# Altium integrated library TI Amplifiers and Linear PGA-VGA.IntLib: 149 symbols (part 7 of 8)
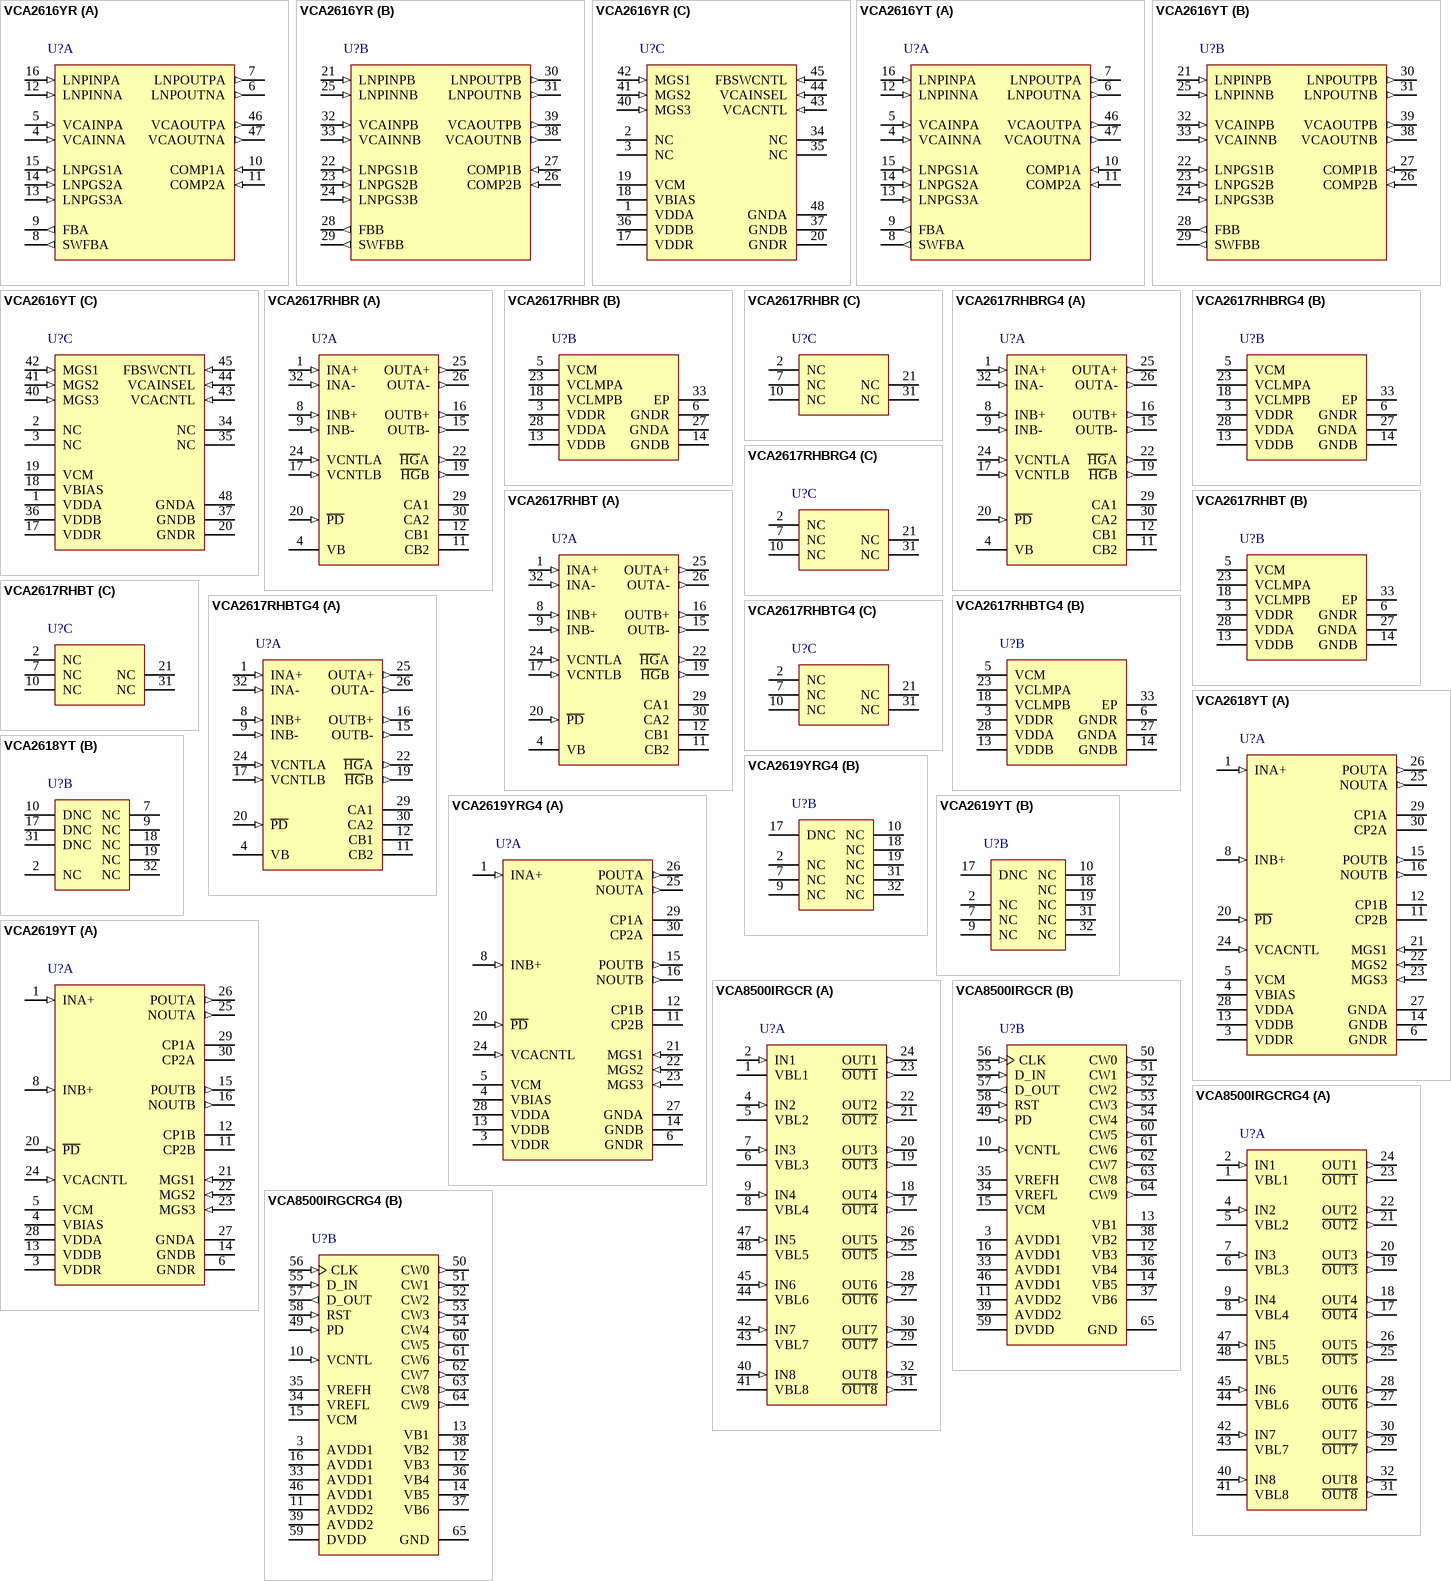
[diagram p13: symbols VCA2616YR to VCA8500IRGCRG4]

## VCA2617RHBT
designator U?
2-Channel Variable Gain Amplifier, -40 to 85 degC, 32-pin QFN (RHB32), Green (RoHS & no Sb/Br); Manufacturer: Texas Instruments; PartNumber: VCA2617RHBT; BW @ Acl(MHz): 50; Number of Channels: 2; Slew Rate(Typ)(V/us): 100; Vn at Flatband(Typ)(nV/rtHz): 4.1; Vs(Max)(V): 5.25; Vs(Min)(V): 4.75; DatasheetVersion: SBOS326; PackageVersion: 4204326/D, 06/2011; PackageReference: RHB32-3150X3150TP; PackageDescription: 32-Pin Plastic Flat Pack, Body 5 x 5 mm, Pitch 0.5 mm; Supplier 1: Digi-Key; Supplier Part Number 1: 296-18347-2-ND; Supplier 2: Digi-Key; Supplier Part Number 2: 296-18347-1-ND; Supplier 3: Digi-Key; Supplier Part Number 3: 296-18347-6-ND; Supplier 4: Newark; Supplier Part Number 4: 54K2380; Supplier 5: Mouser; Supplier Part Number 5: 595-VCA2617RHBT; Eco-Plan: Green (RoHS & no Sb/Br); SubFamily: Variable Gain Amplifier; Mounting Technology: Surface Mount; Code_JEDEC: MO-220; ComponentLink1Description: Manufacturer URL; ComponentLink1URL: http://www.ti.com/; ComponentLink2Description: Datasheet; ComponentLink2URL: http://www.ti.com/general/docs/lit/getliterature.tsp?genericPartNumber=VCA2617&fileType=pdf; ComponentLink3Description: Package Specification; ComponentLink3URL: http://www.ti.com/lit/ml/mpqf130c/mpqf130c.pdf
footprint TI-RHB32-3150X3150TP_V (QFN, 32-Leads, Body 5x5mm, Pitch 0.5mm, Thermal Pad 3.15x3.15mm)
part A pins: 1 INA+ (in) "Channel A +Input", 4 VB "Bias Voltage, 0.1uF Bypass Capacitor", 8 INB+ (in) "Channel B+ Input", 9 INB- (in) "Channel B- Input", 11 CB2 "Channel B, External Coupling Capacitor", 12 CB1 "Channel B, External Coupling Capacitor", 15 OUTB- (out) "Channel B- Output", 16 OUTB+ (out) "Channel B+ Output", 17 VCNTLB (in) "Channel B Gain Control Voltage Input", 19 ~{HG}B (out) "Channel B High/Low Output Gain (High = Low Gain)", 20 ~{PD} (in) "Power Down (Active High)", 22 ~{HG}A (out) "Channel A High/Low Output Gain (High = Low Gain)", 24 VCNTLA (in) "Channel A Gain Control Voltage Input", 25 OUTA+ (out) "Channel A+ Output", 26 OUTA- (out) "Channel A- Output", 29 CA1 "Channel A; External Coupling Capacitor", 30 CA2 "Channel A; External Coupling Capacitor", 32 INA- (in) "Channel A- Input"
part B pins: 3 VDDR (power) "Reference Supply", 5 VCM (power) "Common-mode Voltage, 0.1uF Bypass Capacitor", 6 GNDR (power) "Internal Reference Ground", 13 VDDB (power) "Channel B Supply", 14 GNDB (power) "Channel B Ground", 18 VCLMPB (power) "Channel B Clamp Voltage", 23 VCLMPA (power) "Channel A Clamp Voltage", 27 GNDA (power) "Channel A Ground", 28 VDDA (power) "Channel A Supply", 33 EP (power) "Thermal Pad tied to Ground Potentia"
part C pins: 2 NC "No Internal Connection", 7 NC "No Internal Connection", 10 NC "No Internal Connection", 21 NC "No Internal Connection", 31 NC "No Internal Connection"

## VCA2617RHBTG4
designator U?
2-Channel Variable Gain Amplifier, -40 to 85 degC, 32-pin QFN (RHB32), Green (RoHS & no Sb/Br); Manufacturer: Texas Instruments; PartNumber: VCA2617RHBTG4; BW @ Acl(MHz): 50; Number of Channels: 2; Slew Rate(Typ)(V/us): 100; Vn at Flatband(Typ)(nV/rtHz): 4.1; Vs(Max)(V): 5.25; Vs(Min)(V): 4.75; DatasheetVersion: SBOS326; PackageVersion: 4204326/D, 06/2011; PackageReference: RHB32-3150X3150TP; PackageDescription: 32-Pin Plastic Flat Pack, Body 5 x 5 mm, Pitch 0.5 mm; Supplier 1: Digi-Key; Supplier Part Number 1: VCA2617RHBTG4-ND; Supplier 2: Mouser; Supplier Part Number 2: 595-VCA2617RHBTG4; Eco-Plan: Green (RoHS & no Sb/Br); SubFamily: Variable Gain Amplifier; Mounting Technology: Surface Mount; Code_JEDEC: MO-220; ComponentLink1Description: Manufacturer URL; ComponentLink1URL: http://www.ti.com/; ComponentLink2Description: Datasheet; ComponentLink2URL: http://www.ti.com/general/docs/lit/getliterature.tsp?genericPartNumber=VCA2617&fileType=pdf; ComponentLink3Description: Package Specification; ComponentLink3URL: http://www.ti.com/lit/ml/mpqf130c/mpqf130c.pdf
footprint TI-RHB32-3150X3150TP_V (QFN, 32-Leads, Body 5x5mm, Pitch 0.5mm, Thermal Pad 3.15x3.15mm)
part A pins: 1 INA+ (in) "Channel A +Input", 4 VB "Bias Voltage, 0.1uF Bypass Capacitor", 8 INB+ (in) "Channel B+ Input", 9 INB- (in) "Channel B- Input", 11 CB2 "Channel B, External Coupling Capacitor", 12 CB1 "Channel B, External Coupling Capacitor", 15 OUTB- (out) "Channel B- Output", 16 OUTB+ (out) "Channel B+ Output", 17 VCNTLB (in) "Channel B Gain Control Voltage Input", 19 ~{HG}B (out) "Channel B High/Low Output Gain (High = Low Gain)", 20 ~{PD} (in) "Power Down (Active High)", 22 ~{HG}A (out) "Channel A High/Low Output Gain (High = Low Gain)", 24 VCNTLA (in) "Channel A Gain Control Voltage Input", 25 OUTA+ (out) "Channel A+ Output", 26 OUTA- (out) "Channel A- Output", 29 CA1 "Channel A; External Coupling Capacitor", 30 CA2 "Channel A; External Coupling Capacitor", 32 INA- (in) "Channel A- Input"
part B pins: 3 VDDR (power) "Reference Supply", 5 VCM (power) "Common-mode Voltage, 0.1uF Bypass Capacitor", 6 GNDR (power) "Internal Reference Ground", 13 VDDB (power) "Channel B Supply", 14 GNDB (power) "Channel B Ground", 18 VCLMPB (power) "Channel B Clamp Voltage", 23 VCLMPA (power) "Channel A Clamp Voltage", 27 GNDA (power) "Channel A Ground", 28 VDDA (power) "Channel A Supply", 33 EP (power) "Thermal Pad tied to Ground Potentia"
part C pins: 2 NC "No Internal Connection", 7 NC "No Internal Connection", 10 NC "No Internal Connection", 21 NC "No Internal Connection", 31 NC "No Internal Connection"

## VCA2618YT
designator U?
Dual, Variable Gain Amplifier with Input Buffer, -40 to 85 degC, 32-pin QFP (PBS32), Green (RoHS & no Sb/Br); Manufacturer: Texas Instruments; PartNumber: VCA2618YT; Number of Channels: 2; Slew Rate(Typ)(V/us): 300; Vn at Flatband(Typ)(nV/rtHz): 5.4; Vs(Max)(V): 5.25; Vs(Min)(V): 4.75; DatasheetVersion: SBOS254B; PackageVersion: 4087735/B, 07/2005; PackageReference: PBS32; PackageDescription: 32-Pin Plastic Flat Pack, Body 5 X 5 mm, Pitch 0.5 mm; Supplier 1: Digi-Key; Supplier Part Number 1: 296-14062-2-ND; Supplier 2: Digi-Key; Supplier Part Number 2: 296-14062-1-ND; Supplier 3: Digi-Key; Supplier Part Number 3: 296-14062-6-ND; Supplier 4: Mouser; Supplier Part Number 4: 595-VCA2618YT; Eco-Plan: Green (RoHS & no Sb/Br); SubFamily: Variable Gain Amplifier; Mounting Technology: Surface Mount; Code_JEDEC: MS-026; ComponentLink1Description: Manufacturer URL; ComponentLink1URL: http://www.ti.com/; ComponentLink2Description: Datasheet; ComponentLink2URL: http://www.ti.com/general/docs/lit/getliterature.tsp?genericPartNumber=VCA2618&fileType=pdf; ComponentLink3Description: Package Specification; ComponentLink3URL: http://www.ti.com/lit/ml/mpqf027a/mpqf027a.pdf
footprint TI-PBS32_N (QFP, 32-Leads, Body 5x5mm, Pitch 0.5mm, IPC Medium Density)
footprint TI-PBS32_L (QFP, 32-Leads, Body 5x5mm, Pitch 0.5mm, IPC High Density)
footprint TI-PBS32_M (QFP, 32-Leads, Body 5x5mm, Pitch 0.5mm, IPC Low Density)
part A pins: 1 INA+ (in) "Noninverting Input Channel A", 3 VDDR (power) "Internal Reference Supply", 4 VBIAS (power) "Bias Voltage", 5 VCM (power) "Common-Mode Voltage", 6 GNDR (power) "Internal Reference Ground", 8 INB+ (in) "Noninverting Input Channel B", 11 CP2B "Coupling Capacitor Channel B", 12 CP1B "Coupling Capacitor Channel B", 13 VDDB (power) "+5V Supply Channel B", 14 GNDB (power) "Ground Channel B", 15 POUTB (out) "Positive Output Channel B", 16 NOUTB (out) "Negative Output Channel B", 20 ~{PD} (in) "Power-Down (Active LOW)", 21 MGS1 (in) "Maximum Gain Select 1 (MSB)", 22 MGS2 (in) "Maximum Gain Select 2", 23 MGS3 (in) "Maximum Gain Select 3 (LSB)", 24 VCACNTL (in) "VCA Analog Control", 25 NOUTA (out) "Negative VCA Output Channel A", 26 POUTA (out) "Positive VCA Output Channel A", 27 GNDA (power) "Ground Channel A", 28 VDDA (power) "+5V Supply Channel A", 29 CP1A "Coupling Capacitor Channel A", 30 CP2A "Coupling Capacitor Channel A"
part B pins: 2 NC "No Internal Connection", 7 NC "Not Connected", 9 NC "No Internal Connection", 10 DNC "Do Not Connect", 17 DNC "Do Not Connect", 18 NC "No Internal Connection", 19 NC "No Internal Connection", 31 DNC "Do Not Connect", 32 NC "No Internal Connection"

## VCA2619YRG4
designator U?
Dual, Variable Gain Amplifier with Input Buffer, -40 to 85 degC, 32-pin QFP (PBS32); Manufacturer: Texas Instruments; PartNumber: VCA2619YRG4; BW @ Acl(MHz): 20; Iib(Max)(nA): 1; Number of Channels: 2; Slew Rate(Typ)(V/us): 300; Vn at Flatband(Typ)(nV/rtHz): 5.9; Vs(Max)(V): 5.25; Vs(Min)(V): 4.75; DatasheetVersion: SBOS276A; PackageVersion: 4087735/B, 07/2005; PackageReference: PBS32; PackageDescription: 32-Pin Plastic Flat Pack, Body 5 X 5 mm, Pitch 0.5 mm; Supplier 1: Mouser; Supplier Part Number 1: N/A; SubFamily: Variable Gain Amplifier; Mounting Technology: Surface Mount; Code_JEDEC: MS-026; ComponentLink1Description: Manufacturer URL; ComponentLink1URL: http://www.ti.com/; ComponentLink2Description: Datasheet; ComponentLink2URL: http://www.ti.com/general/docs/lit/getliterature.tsp?genericPartNumber=VCA2619&fileType=pdf; ComponentLink3Description: Package Specification; ComponentLink3URL: http://www.ti.com/lit/ml/mpqf027a/mpqf027a.pdf
footprint TI-PBS32_N (QFP, 32-Leads, Body 5x5mm, Pitch 0.5mm, IPC Medium Density)
footprint TI-PBS32_L (QFP, 32-Leads, Body 5x5mm, Pitch 0.5mm, IPC High Density)
footprint TI-PBS32_M (QFP, 32-Leads, Body 5x5mm, Pitch 0.5mm, IPC Low Density)
part A pins: 1 INA+ (in) "Noninverting Input Channel A", 3 VDDR (power) "Internal Reference Supply", 4 VBIAS (power) "Bias Voltage", 5 VCM (power) "Common?Mode Voltage", 6 GNDR (power) "Internal Reference Ground", 8 INB+ (in) "Noninverting Input Channel B", 11 CP2B "Coupling Capacitor Channel B", 12 CP1B "Coupling Capacitor Channel B", 13 VDDB (power) "+5V Supply Channel B", 14 GNDB (power) "Ground Channel B", 15 POUTB (out) "Positive Output Channel B", 16 NOUTB (out) "Negative Output Channel B", 20 ~{PD} (in) "Power-Down (Active LOW)", 21 MGS1 (in) "Maximum Gain Select 1 (MSB)", 22 MGS2 (in) "Maximum Gain Select 2", 23 MGS3 (in) "Maximum Gain Select 3 (LSB)", 24 VCACNTL (in) "VCA Analog Control", 25 NOUTA (out) "Negative VCA Output Channel A", 26 POUTA (out) "Positive VCA Output Channel A", 27 GNDA (power) "Ground Channel A", 28 VDDA (power) "+5V Supply Channel A", 29 CP1A "Coupling Capacitor Channel A", 30 CP2A "Coupling Capacitor Channel A"
part B pins: 2 NC "No Internal Connection", 7 NC "No Internal Connection", 9 NC "No Internal Connection", 10 NC "No Internal Connection", 17 DNC "Do Not Connect", 18 NC "No Internal Connection", 19 NC "No Internal Connection", 31 NC "No Internal Connection", 32 NC "No Internal Connection"

## VCA2619YT
designator U?
Dual, Variable Gain Amplifier with Input Buffer, -40 to 85 degC, 32-pin QFP (PBS32), Green (RoHS & no Sb/Br); Manufacturer: Texas Instruments; PartNumber: VCA2619YT; BW @ Acl(MHz): 20; Iib(Max)(nA): 1; Number of Channels: 2; Slew Rate(Typ)(V/us): 300; Vn at Flatband(Typ)(nV/rtHz): 5.9; Vs(Max)(V): 5.25; Vs(Min)(V): 4.75; DatasheetVersion: SBOS276A; PackageVersion: 4087735/B, 07/2005; PackageReference: PBS32; PackageDescription: 32-Pin Plastic Flat Pack, Body 5 X 5 mm, Pitch 0.5 mm; Supplier 1: Digi-Key; Supplier Part Number 1: 296-19047-2-ND; Supplier 2: Digi-Key; Supplier Part Number 2: 296-19047-1-ND; Supplier 3: Mouser; Supplier Part Number 3: 595-VCA2619YT; Eco-Plan: Green (RoHS & no Sb/Br); SubFamily: Variable Gain Amplifier; Mounting Technology: Surface Mount; Code_JEDEC: MS-026; ComponentLink1Description: Manufacturer URL; ComponentLink1URL: http://www.ti.com/; ComponentLink2Description: Datasheet; ComponentLink2URL: http://www.ti.com/general/docs/lit/getliterature.tsp?genericPartNumber=VCA2619&fileType=pdf; ComponentLink3Description: Package Specification; ComponentLink3URL: http://www.ti.com/lit/ml/mpqf027a/mpqf027a.pdf
footprint TI-PBS32_N (QFP, 32-Leads, Body 5x5mm, Pitch 0.5mm, IPC Medium Density)
footprint TI-PBS32_L (QFP, 32-Leads, Body 5x5mm, Pitch 0.5mm, IPC High Density)
footprint TI-PBS32_M (QFP, 32-Leads, Body 5x5mm, Pitch 0.5mm, IPC Low Density)
part A pins: 1 INA+ (in) "Noninverting Input Channel A", 3 VDDR (power) "Internal Reference Supply", 4 VBIAS (power) "Bias Voltage", 5 VCM (power) "Common?Mode Voltage", 6 GNDR (power) "Internal Reference Ground", 8 INB+ (in) "Noninverting Input Channel B", 11 CP2B "Coupling Capacitor Channel B", 12 CP1B "Coupling Capacitor Channel B", 13 VDDB (power) "+5V Supply Channel B", 14 GNDB (power) "Ground Channel B", 15 POUTB (out) "Positive Output Channel B", 16 NOUTB (out) "Negative Output Channel B", 20 ~{PD} (in) "Power-Down (Active LOW)", 21 MGS1 (in) "Maximum Gain Select 1 (MSB)", 22 MGS2 (in) "Maximum Gain Select 2", 23 MGS3 (in) "Maximum Gain Select 3 (LSB)", 24 VCACNTL (in) "VCA Analog Control", 25 NOUTA (out) "Negative VCA Output Channel A", 26 POUTA (out) "Positive VCA Output Channel A", 27 GNDA (power) "Ground Channel A", 28 VDDA (power) "+5V Supply Channel A", 29 CP1A "Coupling Capacitor Channel A", 30 CP2A "Coupling Capacitor Channel A"
part B pins: 2 NC "No Internal Connection", 7 NC "No Internal Connection", 9 NC "No Internal Connection", 10 NC "No Internal Connection", 17 DNC "Do Not Connect", 18 NC "No Internal Connection", 19 NC "No Internal Connection", 31 NC "No Internal Connection", 32 NC "No Internal Connection"

## VCA8500IRGCR
designator U?
8-Channel, Ultra-Low Power Variable Gain Amplifier with Low-Noise Pre-Amplifier, -40 to 85 degC, 64-pin QFN (RGC64), Green (RoHS & no Sb/Br); Manufacturer: Texas Instruments; PartNumber: VCA8500IRGCR; BW @ Acl(MHz): 55; Number of Channels: 8; Vs(Max)(V): 3.6; Vs(Min)(V): 3.15; DatasheetVersion: SBOS390A; PackageVersion: 4204106/F, 11/2011; PackageReference: RGC64-7400X7400TP; PackageDescription: 64-Pin Plastic Quad Flatpack No-Lead, Body 9 x 9 mm, Pitch 0.5 mm; Supplier 1: Digi-Key; Supplier Part Number 1: VCA8500IRGCR-ND; Supplier 2: Mouser; Supplier Part Number 2: 595-VCA8500IRGCR; Eco-Plan: Green (RoHS & no Sb/Br); SubFamily: Variable Gain Amplifier; Mounting Technology: Surface Mount; ComponentLink1Description: Manufacturer URL; ComponentLink1URL: http://www.ti.com/; ComponentLink2Description: Datasheet; ComponentLink2URL: http://www.ti.com/general/docs/lit/getliterature.tsp?genericPartNumber=VCA8500&fileType=pdf; ComponentLink3Description: Package Specification; ComponentLink3URL: http://www.ti.com/litv/pdf/mpqf125e
footprint TI-RGC64-7400X7400TP_V (QFN, 64-Leads, Body 9x9mm, Pitch 0.5mm, Thermal Pad 7.4x7.4mm, TI Recommended)
part A pins: 1 VBL1 "LNA bias voltage (+2.4V); bypass with 0.1uF capacitor (min)", 2 IN1 (in) "LNA input channel 1", 4 IN2 (in) "LNA input channel 2", 5 VBL2 "LNA bias voltage (+2.4V); bypass with 0.1uF capacitor (min)", 6 VBL3 "LNA bias voltage (+2.4V); bypass with 0.1uF capacitor (min)", 7 IN3 (in) "LNA input channel 3", 8 VBL4 "LNA bias voltage (+2.4V); bypass with 0.1uF capacitor (min)", 9 IN4 (in) "LNA input channel 4", 17 ~{OUT4} (out) "PGA output channel 4 (inverted)", 18 OUT4 (out) "PGA output channel 4", 19 ~{OUT3} (out) "PGA output channel 3 (inverted)", 20 OUT3 (out) "PGA output channel 3", 21 ~{OUT2} (out) "PGA output channel 2 (inverted)", 22 OUT2 (out) "PGA output channel 2", 23 ~{OUT1} (out) "PGA output channel 1 (inverted)", 24 OUT1 (out) "PGA output channel 1", 25 ~{OUT5} (out) "PGA output channel 5 (inverted)", 26 OUT5 (out) "PGA output channel 5", 27 ~{OUT6} (out) "PGA output channel 6 (inverted)", 28 OUT6 (out) "PGA output channel 6", 29 ~{OUT7} (out) "PGA output channel 7 (inverted)", 30 OUT7 (out) "PGA output channel 7", 31 ~{OUT8} (out) "PGA output channel 8 (inverted)", 32 OUT8 (out) "PGA output channel 8", 40 IN8 (in) "LNA input channel 8", 41 VBL8 "LNA bias voltage (+2.4V); bypass with 0.1uF capacitor (min)", 42 IN7 (in) "LNA input channel 7", 43 VBL7 "LNA bias voltage (+2.4V); bypass with 0.1uF capacitor (min)", 44 VBL6 "LNA bias voltage (+2.4V); bypass with 0.1uF capacitor (min)", 45 IN6 (in) "LNA input channel 6", 47 IN5 (in) "LNA input channel 5", 48 VBL5 "LNA bias voltage (+2.4V); bypass with 0.1uF capacitor (min)"
part B pins: 3 AVDD1 (power) "+3.3V analog supply", 10 VCNTL (in) "Attenuator control voltage input (all channels)", 11 AVDD2 (power) "+5V analog supply (VCA, CW)", 12 VB3 "Internal bias voltage (+4.2V); bypass with 0.1uF capacitor (min)", 13 VB1 "Internal bias voltage (+2.4V); bypass with 2.2uF capacitor (1.0uF min)", 14 VB5 "Internal bias voltage (+2.4V); bypass with 0.1uF capacitor (min)", 15 VCM (power) "Internal common-mode voltage (+1.65V); bypass with 0.1uF capacitor (min)", 16 AVDD1 (power) "+3.3V analog supply", 33 AVDD1 (power) "+3.3V analog supply", 34 VREFL "Clamp reference level low, 2.0V; bypass with 0.1uF capacitor (min)", 35 VREFH "Clamp reference level high, 2.7V; bypass with 0.1uF capacitor (min)", 36 VB4 "Internal bias voltage (+2.4V); bypass with 0.1uF capacitor (min)", 37 VB6 "Internal bias voltage (+2.9V); bypass with 0.1uF capacitor (min)", 38 VB2 "Internal bias voltage (+2.7V); bypass with 0.1uF capacitor (min)", 39 AVDD2 (power) "+5V analog supply (VCA, CW)", 46 AVDD1 (power) "+3.3V analog supply", 49 PD (in) "Power-down pin for standby mode; 0 = normal operation, 1 = power down", 50 CW0 (out) "CW channel 0 current output", 51 CW1 (out) "CW channel 1 current output", 52 CW2 (out) "CW channel 2 current output", 53 CW3 (out) "CW channel 3 current output", 54 CW4 (out) "CW channel 4 current output", 55 D_IN (in) "Serial data input", 56 CLK (in) "Clock input for serial interface", 57 D_OUT (out) "Serial data output", 58 RST (in) "Reset input; rising edge resets register to default values.", 59 DVDD (power) "+3.3V digital supply; connect to a low-noise analog supply plane (AVDD1)", 60 CW5 (out) "CW channel 5 current output", 61 CW6 (out) "CW channel 6 current output", 62 CW7 (out) "CW channel 7 current output", 63 CW8 (out) "CW channel 8 current output", 64 CW9 (out) "CW channel 9 current output", 65 GND (power) "PowerPAD must be connected to the analog ground of the printed circuit board; use this ground for bypass capacitor return ground."

## VCA8500IRGCRG4
designator U?
8-Channel, Ultra-Low Power Variable Gain Amplifier with Low-Noise Pre-Amplifier, -40 to 85 degC, 64-pin QFN (RGC64), Green (RoHS & no Sb/Br); Manufacturer: Texas Instruments; PartNumber: VCA8500IRGCRG4; BW @ Acl(MHz): 55; Number of Channels: 8; Vs(Max)(V): 3.6; Vs(Min)(V): 3.15; DatasheetVersion: SBOS390A; PackageVersion: 4204106/F, 11/2011; PackageReference: RGC64-7400X7400TP; PackageDescription: 64-Pin Plastic Quad Flatpack No-Lead, Body 9 x 9 mm, Pitch 0.5 mm; Supplier 1: Digi-Key; Supplier Part Number 1: VCA8500IRGCRG4-ND; Supplier 2: Mouser; Supplier Part Number 2: 595-VCA8500IRGCRG4; Eco-Plan: Green (RoHS & no Sb/Br); SubFamily: Variable Gain Amplifier; Mounting Technology: Surface Mount; ComponentLink1Description: Manufacturer URL; ComponentLink1URL: http://www.ti.com/; ComponentLink2Description: Datasheet; ComponentLink2URL: http://www.ti.com/general/docs/lit/getliterature.tsp?genericPartNumber=VCA8500&fileType=pdf; ComponentLink3Description: Package Specification; ComponentLink3URL: http://www.ti.com/litv/pdf/mpqf125e
footprint TI-RGC64-7400X7400TP_V (QFN, 64-Leads, Body 9x9mm, Pitch 0.5mm, Thermal Pad 7.4x7.4mm, TI Recommended)
part A pins: 1 VBL1 "LNA bias voltage (+2.4V); bypass with 0.1uF capacitor (min)", 2 IN1 (in) "LNA input channel 1", 4 IN2 (in) "LNA input channel 2", 5 VBL2 "LNA bias voltage (+2.4V); bypass with 0.1uF capacitor (min)", 6 VBL3 "LNA bias voltage (+2.4V); bypass with 0.1uF capacitor (min)", 7 IN3 (in) "LNA input channel 3", 8 VBL4 "LNA bias voltage (+2.4V); bypass with 0.1uF capacitor (min)", 9 IN4 (in) "LNA input channel 4", 17 ~{OUT4} (out) "PGA output channel 4 (inverted)", 18 OUT4 (out) "PGA output channel 4", 19 ~{OUT3} (out) "PGA output channel 3 (inverted)", 20 OUT3 (out) "PGA output channel 3", 21 ~{OUT2} (out) "PGA output channel 2 (inverted)", 22 OUT2 (out) "PGA output channel 2", 23 ~{OUT1} (out) "PGA output channel 1 (inverted)", 24 OUT1 (out) "PGA output channel 1", 25 ~{OUT5} (out) "PGA output channel 5 (inverted)", 26 OUT5 (out) "PGA output channel 5", 27 ~{OUT6} (out) "PGA output channel 6 (inverted)", 28 OUT6 (out) "PGA output channel 6", 29 ~{OUT7} (out) "PGA output channel 7 (inverted)", 30 OUT7 (out) "PGA output channel 7", 31 ~{OUT8} (out) "PGA output channel 8 (inverted)", 32 OUT8 (out) "PGA output channel 8", 40 IN8 (in) "LNA input channel 8", 41 VBL8 "LNA bias voltage (+2.4V); bypass with 0.1uF capacitor (min)", 42 IN7 (in) "LNA input channel 7", 43 VBL7 "LNA bias voltage (+2.4V); bypass with 0.1uF capacitor (min)", 44 VBL6 "LNA bias voltage (+2.4V); bypass with 0.1uF capacitor (min)", 45 IN6 (in) "LNA input channel 6", 47 IN5 (in) "LNA input channel 5", 48 VBL5 "LNA bias voltage (+2.4V); bypass with 0.1uF capacitor (min)"
part B pins: 3 AVDD1 (power) "+3.3V analog supply", 10 VCNTL (in) "Attenuator control voltage input (all channels)", 11 AVDD2 (power) "+5V analog supply (VCA, CW)", 12 VB3 "Internal bias voltage (+4.2V); bypass with 0.1uF capacitor (min)", 13 VB1 "Internal bias voltage (+2.4V); bypass with 2.2uF capacitor (1.0uF min)", 14 VB5 "Internal bias voltage (+2.4V); bypass with 0.1uF capacitor (min)", 15 VCM (power) "Internal common-mode voltage (+1.65V); bypass with 0.1uF capacitor (min)", 16 AVDD1 (power) "+3.3V analog supply", 33 AVDD1 (power) "+3.3V analog supply", 34 VREFL "Clamp reference level low, 2.0V; bypass with 0.1uF capacitor (min)", 35 VREFH "Clamp reference level high, 2.7V; bypass with 0.1uF capacitor (min)", 36 VB4 "Internal bias voltage (+2.4V); bypass with 0.1uF capacitor (min)", 37 VB6 "Internal bias voltage (+2.9V); bypass with 0.1uF capacitor (min)", 38 VB2 "Internal bias voltage (+2.7V); bypass with 0.1uF capacitor (min)", 39 AVDD2 (power) "+5V analog supply (VCA, CW)", 46 AVDD1 (power) "+3.3V analog supply", 49 PD (in) "Power-down pin for standby mode; 0 = normal operation, 1 = power down", 50 CW0 (out) "CW channel 0 current output", 51 CW1 (out) "CW channel 1 current output", 52 CW2 (out) "CW channel 2 current output", 53 CW3 (out) "CW channel 3 current output", 54 CW4 (out) "CW channel 4 current output", 55 D_IN (in) "Serial data input", 56 CLK (in) "Clock input for serial interface", 57 D_OUT (out) "Serial data output", 58 RST (in) "Reset input; rising edge resets register to default values.", 59 DVDD (power) "+3.3V digital supply; connect to a low-noise analog supply plane (AVDD1)", 60 CW5 (out) "CW channel 5 current output", 61 CW6 (out) "CW channel 6 current output", 62 CW7 (out) "CW channel 7 current output", 63 CW8 (out) "CW channel 8 current output", 64 CW9 (out) "CW channel 9 current output", 65 GND (power) "PowerPAD must be connected to the analog ground of the printed circuit board; use this ground for bypass capacitor return ground."

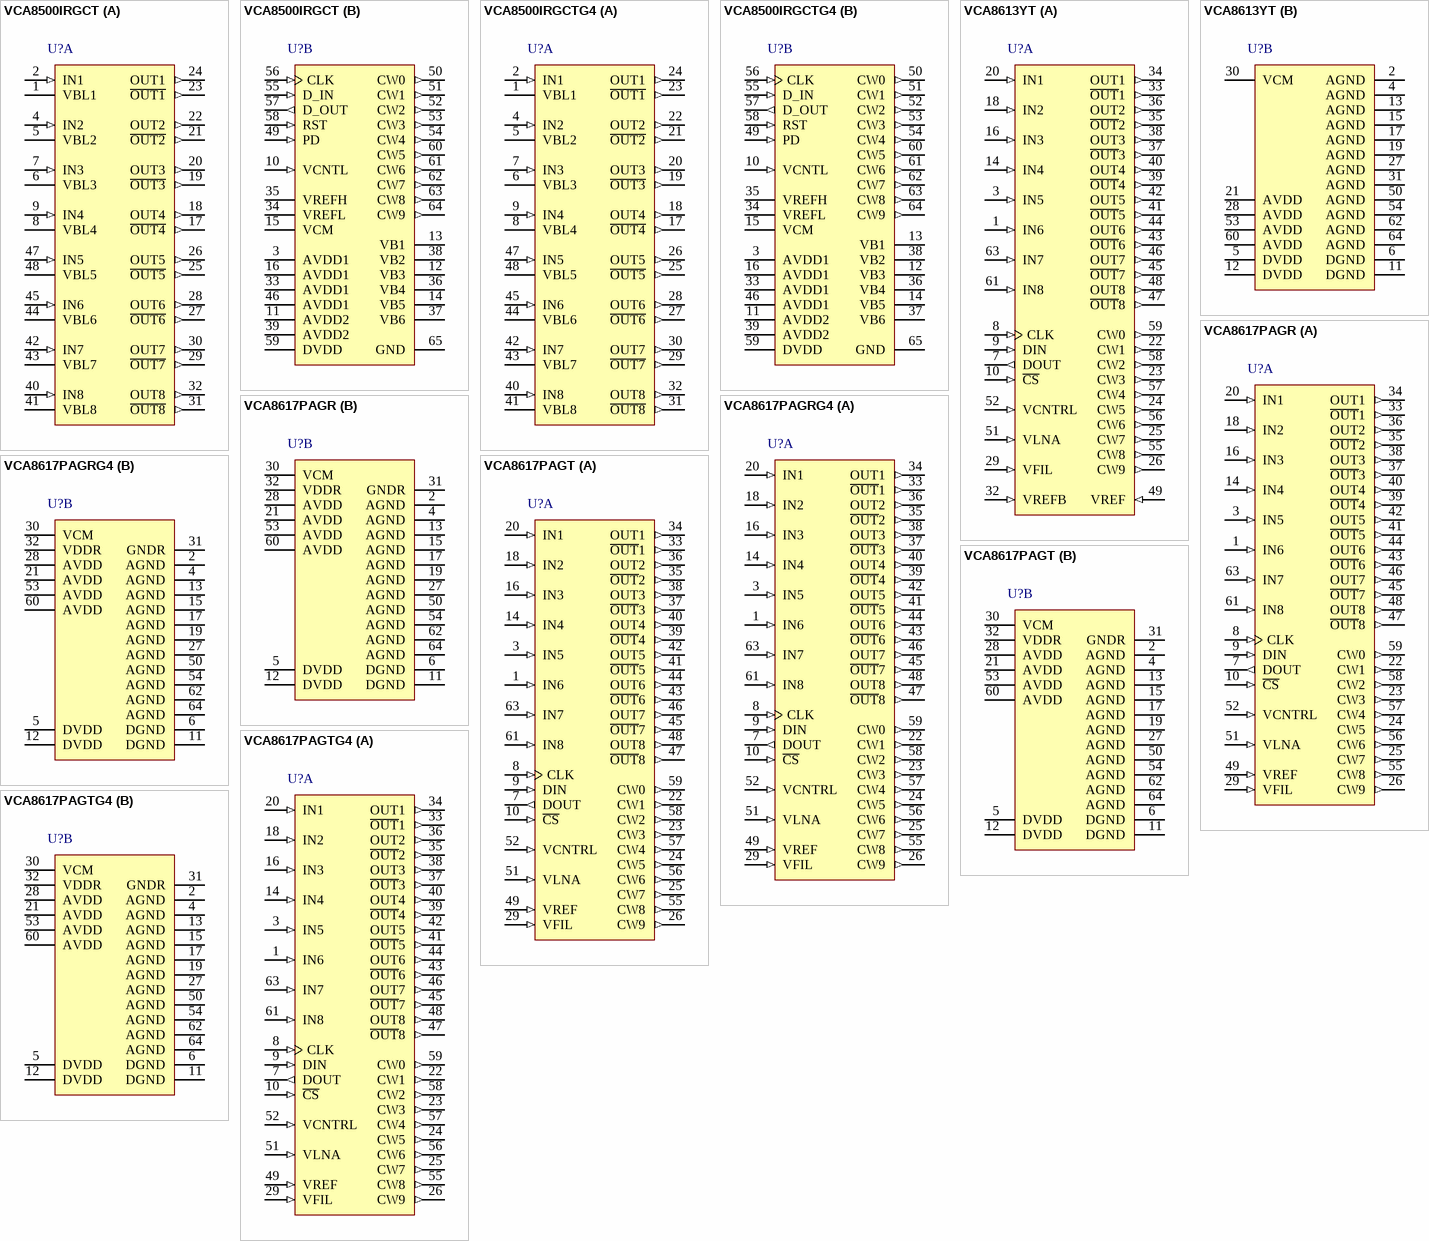
[diagram p7: symbols VCA8500IRGCT to VCA8617PAGTG4]

## VCA8500IRGCT
designator U?
8-Channel, Ultra-Low Power Variable Gain Amplifier with Low-Noise Pre-Amplifier, -40 to 85 degC, 64-pin QFN (RGC64), Green (RoHS & no Sb/Br); Manufacturer: Texas Instruments; PartNumber: VCA8500IRGCT; BW @ Acl(MHz): 55; Number of Channels: 8; Vs(Max)(V): 3.6; Vs(Min)(V): 3.15; DatasheetVersion: SBOS390A; PackageVersion: 4204106/F, 11/2011; PackageReference: RGC64-7400X7400TP; PackageDescription: 64-Pin Plastic Quad Flatpack No-Lead, Body 9 x 9 mm, Pitch 0.5 mm; Supplier 1: Digi-Key; Supplier Part Number 1: 296-23338-2-ND; Supplier 2: Digi-Key; Supplier Part Number 2: 296-23338-1-ND; Supplier 3: Digi-Key; Supplier Part Number 3: 296-23338-6-ND; Supplier 4: Newark; Supplier Part Number 4: 95M0223; Supplier 5: Mouser; Supplier Part Number 5: 595-VCA8500IRGCT; Eco-Plan: Green (RoHS & no Sb/Br); SubFamily: Variable Gain Amplifier; Mounting Technology: Surface Mount; ComponentLink1Description: Manufacturer URL; ComponentLink1URL: http://www.ti.com/; ComponentLink2Description: Datasheet; ComponentLink2URL: http://www.ti.com/general/docs/lit/getliterature.tsp?genericPartNumber=VCA8500&fileType=pdf; ComponentLink3Description: Package Specification; ComponentLink3URL: http://www.ti.com/litv/pdf/mpqf125e
footprint TI-RGC64-7400X7400TP_V (QFN, 64-Leads, Body 9x9mm, Pitch 0.5mm, Thermal Pad 7.4x7.4mm, TI Recommended)
part A pins: 1 VBL1 "LNA bias voltage (+2.4V); bypass with 0.1uF capacitor (min)", 2 IN1 (in) "LNA input channel 1", 4 IN2 (in) "LNA input channel 2", 5 VBL2 "LNA bias voltage (+2.4V); bypass with 0.1uF capacitor (min)", 6 VBL3 "LNA bias voltage (+2.4V); bypass with 0.1uF capacitor (min)", 7 IN3 (in) "LNA input channel 3", 8 VBL4 "LNA bias voltage (+2.4V); bypass with 0.1uF capacitor (min)", 9 IN4 (in) "LNA input channel 4", 17 ~{OUT4} (out) "PGA output channel 4 (inverted)", 18 OUT4 (out) "PGA output channel 4", 19 ~{OUT3} (out) "PGA output channel 3 (inverted)", 20 OUT3 (out) "PGA output channel 3", 21 ~{OUT2} (out) "PGA output channel 2 (inverted)", 22 OUT2 (out) "PGA output channel 2", 23 ~{OUT1} (out) "PGA output channel 1 (inverted)", 24 OUT1 (out) "PGA output channel 1", 25 ~{OUT5} (out) "PGA output channel 5 (inverted)", 26 OUT5 (out) "PGA output channel 5", 27 ~{OUT6} (out) "PGA output channel 6 (inverted)", 28 OUT6 (out) "PGA output channel 6", 29 ~{OUT7} (out) "PGA output channel 7 (inverted)", 30 OUT7 (out) "PGA output channel 7", 31 ~{OUT8} (out) "PGA output channel 8 (inverted)", 32 OUT8 (out) "PGA output channel 8", 40 IN8 (in) "LNA input channel 8", 41 VBL8 "LNA bias voltage (+2.4V); bypass with 0.1uF capacitor (min)", 42 IN7 (in) "LNA input channel 7", 43 VBL7 "LNA bias voltage (+2.4V); bypass with 0.1uF capacitor (min)", 44 VBL6 "LNA bias voltage (+2.4V); bypass with 0.1uF capacitor (min)", 45 IN6 (in) "LNA input channel 6", 47 IN5 (in) "LNA input channel 5", 48 VBL5 "LNA bias voltage (+2.4V); bypass with 0.1uF capacitor (min)"
part B pins: 3 AVDD1 (power) "+3.3V analog supply", 10 VCNTL (in) "Attenuator control voltage input (all channels)", 11 AVDD2 (power) "+5V analog supply (VCA, CW)", 12 VB3 "Internal bias voltage (+4.2V); bypass with 0.1uF capacitor (min)", 13 VB1 "Internal bias voltage (+2.4V); bypass with 2.2uF capacitor (1.0uF min)", 14 VB5 "Internal bias voltage (+2.4V); bypass with 0.1uF capacitor (min)", 15 VCM (power) "Internal common-mode voltage (+1.65V); bypass with 0.1uF capacitor (min)", 16 AVDD1 (power) "+3.3V analog supply", 33 AVDD1 (power) "+3.3V analog supply", 34 VREFL "Clamp reference level low, 2.0V; bypass with 0.1uF capacitor (min)", 35 VREFH "Clamp reference level high, 2.7V; bypass with 0.1uF capacitor (min)", 36 VB4 "Internal bias voltage (+2.4V); bypass with 0.1uF capacitor (min)", 37 VB6 "Internal bias voltage (+2.9V); bypass with 0.1uF capacitor (min)", 38 VB2 "Internal bias voltage (+2.7V); bypass with 0.1uF capacitor (min)", 39 AVDD2 (power) "+5V analog supply (VCA, CW)", 46 AVDD1 (power) "+3.3V analog supply", 49 PD (in) "Power-down pin for standby mode; 0 = normal operation, 1 = power down", 50 CW0 (out) "CW channel 0 current output", 51 CW1 (out) "CW channel 1 current output", 52 CW2 (out) "CW channel 2 current output", 53 CW3 (out) "CW channel 3 current output", 54 CW4 (out) "CW channel 4 current output", 55 D_IN (in) "Serial data input", 56 CLK (in) "Clock input for serial interface", 57 D_OUT (out) "Serial data output", 58 RST (in) "Reset input; rising edge resets register to default values.", 59 DVDD (power) "+3.3V digital supply; connect to a low-noise analog supply plane (AVDD1)", 60 CW5 (out) "CW channel 5 current output", 61 CW6 (out) "CW channel 6 current output", 62 CW7 (out) "CW channel 7 current output", 63 CW8 (out) "CW channel 8 current output", 64 CW9 (out) "CW channel 9 current output", 65 GND (power) "PowerPAD must be connected to the analog ground of the printed circuit board; use this ground for bypass capacitor return ground."

## VCA8500IRGCTG4
designator U?
8-Channel, Ultra-Low Power Variable Gain Amplifier with Low-Noise Pre-Amplifier, -40 to 85 degC, 64-pin QFN (RGC64), Green (RoHS & no Sb/Br); Manufacturer: Texas Instruments; PartNumber: VCA8500IRGCTG4; BW @ Acl(MHz): 55; Number of Channels: 8; Vs(Max)(V): 3.6; Vs(Min)(V): 3.15; DatasheetVersion: SBOS390A; PackageVersion: 4204106/F, 11/2011; PackageReference: RGC64-7400X7400TP; PackageDescription: 64-Pin Plastic Quad Flatpack No-Lead, Body 9 x 9 mm, Pitch 0.5 mm; Supplier 1: Digi-Key; Supplier Part Number 1: VCA8500IRGCTG4-ND; Supplier 2: Mouser; Supplier Part Number 2: 595-VCA8500IRGCTG4; Eco-Plan: Green (RoHS & no Sb/Br); SubFamily: Variable Gain Amplifier; Mounting Technology: Surface Mount; ComponentLink1Description: Manufacturer URL; ComponentLink1URL: http://www.ti.com/; ComponentLink2Description: Datasheet; ComponentLink2URL: http://www.ti.com/general/docs/lit/getliterature.tsp?genericPartNumber=VCA8500&fileType=pdf; ComponentLink3Description: Package Specification; ComponentLink3URL: http://www.ti.com/litv/pdf/mpqf125e
footprint TI-RGC64-7400X7400TP_V (QFN, 64-Leads, Body 9x9mm, Pitch 0.5mm, Thermal Pad 7.4x7.4mm, TI Recommended)
part A pins: 1 VBL1 "LNA bias voltage (+2.4V); bypass with 0.1uF capacitor (min)", 2 IN1 (in) "LNA input channel 1", 4 IN2 (in) "LNA input channel 2", 5 VBL2 "LNA bias voltage (+2.4V); bypass with 0.1uF capacitor (min)", 6 VBL3 "LNA bias voltage (+2.4V); bypass with 0.1uF capacitor (min)", 7 IN3 (in) "LNA input channel 3", 8 VBL4 "LNA bias voltage (+2.4V); bypass with 0.1uF capacitor (min)", 9 IN4 (in) "LNA input channel 4", 17 ~{OUT4} (out) "PGA output channel 4 (inverted)", 18 OUT4 (out) "PGA output channel 4", 19 ~{OUT3} (out) "PGA output channel 3 (inverted)", 20 OUT3 (out) "PGA output channel 3", 21 ~{OUT2} (out) "PGA output channel 2 (inverted)", 22 OUT2 (out) "PGA output channel 2", 23 ~{OUT1} (out) "PGA output channel 1 (inverted)", 24 OUT1 (out) "PGA output channel 1", 25 ~{OUT5} (out) "PGA output channel 5 (inverted)", 26 OUT5 (out) "PGA output channel 5", 27 ~{OUT6} (out) "PGA output channel 6 (inverted)", 28 OUT6 (out) "PGA output channel 6", 29 ~{OUT7} (out) "PGA output channel 7 (inverted)", 30 OUT7 (out) "PGA output channel 7", 31 ~{OUT8} (out) "PGA output channel 8 (inverted)", 32 OUT8 (out) "PGA output channel 8", 40 IN8 (in) "LNA input channel 8", 41 VBL8 "LNA bias voltage (+2.4V); bypass with 0.1uF capacitor (min)", 42 IN7 (in) "LNA input channel 7", 43 VBL7 "LNA bias voltage (+2.4V); bypass with 0.1uF capacitor (min)", 44 VBL6 "LNA bias voltage (+2.4V); bypass with 0.1uF capacitor (min)", 45 IN6 (in) "LNA input channel 6", 47 IN5 (in) "LNA input channel 5", 48 VBL5 "LNA bias voltage (+2.4V); bypass with 0.1uF capacitor (min)"
part B pins: 3 AVDD1 (power) "+3.3V analog supply", 10 VCNTL (in) "Attenuator control voltage input (all channels)", 11 AVDD2 (power) "+5V analog supply (VCA, CW)", 12 VB3 "Internal bias voltage (+4.2V); bypass with 0.1uF capacitor (min)", 13 VB1 "Internal bias voltage (+2.4V); bypass with 2.2uF capacitor (1.0uF min)", 14 VB5 "Internal bias voltage (+2.4V); bypass with 0.1uF capacitor (min)", 15 VCM (power) "Internal common-mode voltage (+1.65V); bypass with 0.1uF capacitor (min)", 16 AVDD1 (power) "+3.3V analog supply", 33 AVDD1 (power) "+3.3V analog supply", 34 VREFL "Clamp reference level low, 2.0V; bypass with 0.1uF capacitor (min)", 35 VREFH "Clamp reference level high, 2.7V; bypass with 0.1uF capacitor (min)", 36 VB4 "Internal bias voltage (+2.4V); bypass with 0.1uF capacitor (min)", 37 VB6 "Internal bias voltage (+2.9V); bypass with 0.1uF capacitor (min)", 38 VB2 "Internal bias voltage (+2.7V); bypass with 0.1uF capacitor (min)", 39 AVDD2 (power) "+5V analog supply (VCA, CW)", 46 AVDD1 (power) "+3.3V analog supply", 49 PD (in) "Power-down pin for standby mode; 0 = normal operation, 1 = power down", 50 CW0 (out) "CW channel 0 current output", 51 CW1 (out) "CW channel 1 current output", 52 CW2 (out) "CW channel 2 current output", 53 CW3 (out) "CW channel 3 current output", 54 CW4 (out) "CW channel 4 current output", 55 D_IN (in) "Serial data input", 56 CLK (in) "Clock input for serial interface", 57 D_OUT (out) "Serial data output", 58 RST (in) "Reset input; rising edge resets register to default values.", 59 DVDD (power) "+3.3V digital supply; connect to a low-noise analog supply plane (AVDD1)", 60 CW5 (out) "CW channel 5 current output", 61 CW6 (out) "CW channel 6 current output", 62 CW7 (out) "CW channel 7 current output", 63 CW8 (out) "CW channel 8 current output", 64 CW9 (out) "CW channel 9 current output", 65 GND (power) "PowerPAD must be connected to the analog ground of the printed circuit board; use this ground for bypass capacitor return ground."

## VCA8613YT
designator U?
8-Channel Variable Gain Amplifier, -40 to 85 degC, 64-pin QFP (PAG64), Green (RoHS & no Sb/Br); Manufacturer: Texas Instruments; PartNumber: VCA8613YT; Number of Channels: 8; Slew Rate(Typ)(V/us): 300; Vs(Max)(V): 3.15; Vs(Min)(V): 2.85; DatasheetVersion: SBOS200F; PackageVersion: 4040282/C, 11/1996; PackageReference: PAG64; PackageDescription: 64-Pin Plastic Flat Pack, Body 10 x 10 mm, Pitch 0.50 mm; Supplier 1: Digi-Key; Supplier Part Number 1: 296-15991-2-ND; Supplier 2: Digi-Key; Supplier Part Number 2: 296-15991-1-ND; Supplier 3: Digi-Key; Supplier Part Number 3: 296-15991-6-ND; Supplier 4: Newark; Supplier Part Number 4: 90H5539; Supplier 5: Mouser; Supplier Part Number 5: 595-VCA8613YT; Eco-Plan: Green (RoHS & no Sb/Br); SubFamily: Variable Gain Amplifier; Mounting Technology: Surface Mount; Code_JEDEC: MS-026; ComponentLink1Description: Manufacturer URL; ComponentLink1URL: http://www.ti.com/; ComponentLink2Description: Datasheet; ComponentLink2URL: http://www.ti.com/general/docs/lit/getliterature.tsp?genericPartNumber=VCA8613&fileType=pdf; ComponentLink3Description: Package Specification; ComponentLink3URL: http://www.ti.com/lit/ml/mtqf006a/mtqf006a.pdf
footprint TI-PAG64_N (QFP, 64-Leads, Body 10x10mm, Pitch 0.5mm, IPC Medium Density)
footprint TI-PAG64_L (QFP, 64-Leads, Body 10x10mm, Pitch 0.5mm, IPC High Density)
footprint TI-PAG64_M (QFP, 64-Leads, Body 10x10mm, Pitch 0.5mm, IPC Low Density)
part A pins: 1 IN6 (in) "Single-Ended LNA Inputs", 3 IN5 (in) "Single-Ended LNA Inputs", 7 DOUT (out) "Serial Data Output Pin", 8 CLK (in) "Serial Data Input Clock", 9 DIN (in) "Serial Data Input Pin", 10 ~{CS} (in) "Serial Data Chip Select", 14 IN4 (in) "Single-Ended LNA Inputs", 16 IN3 (in) "Single-Ended LNA Inputs", 18 IN2 (in) "Single-Ended LNA Inputs", 20 IN1 (in) "Single-Ended LNA Inputs", 22 CW1 (out) "Continuous Wave Processor Outputs", 23 CW3 (out) "Continuous Wave Processor Outputs", 24 CW5 (out) "Continuous Wave Processor Outputs", 25 CW7 (out) "Continuous Wave Processor Outputs", 26 CW9 (out) "Continuous Wave Processor Outputs", 29 VFIL (in) "Reference Voltage for Output Filter-internally generated; requires external bypass cap.", 32 VREFB (in) "Bandgap Reference Voltage-internally generated; requires external bypass cap.", 33 ~{OUT}1 (out) "Negative Polarity PGA Outputs", 34 OUT1 (out) "Positive Polarity PGA Outputs", 35 ~{OUT}2 (out) "Negative Polarity PGA Outputs", 36 OUT2 (out) "Positive Polarity PGA Outputs", 37 ~{OUT}3 (out) "Negative Polarity PGA Outputs", 38 OUT3 (out) "Positive Polarity PGA Outputs", 39 ~{OUT}4 (out) "Negative Polarity PGA Outputs", 40 OUT4 (out) "Positive Polarity PGA Outputs", 41 ~{OUT}5 (out) "Negative Polarity PGA Outputs", 42 OUT5 (out) "Positive Polarity PGA Outputs", 43 ~{OUT}6 (out) "Negative Polarity PGA Outputs", 44 OUT6 (out) "Positive Polarity PGA Outputs", 45 ~{OUT}7 (out) "Negative Polarity PGA Outputs", 46 OUT7 (out) "Positive Polarity PGA Outputs", 47 ~{OUT}8 (out) "Negative Polarity PGA Outputs", 48 OUT8 (out) "Positive Polarity PGA Outputs", 49 VREF (in) "Reference Voltage for Attenuator-internally generated; requires external bypass cap.", 51 VLNA (in) "Reference Voltage for LNA-internally generated; requires external bypass cap.", 52 VCNTRL (in) "Attenuator Control Voltage Input", 55 CW8 (out) "Continuous Wave Processor Outputs", 56 CW6 (out) "Continuous Wave Processor Outputs", 57 CW4 (out) "Continuous Wave Processor Outputs", 58 CW2 (out) "Continuous Wave Processor Outputs", 59 CW0 (out) "Continuous Wave Processor Outputs", 61 IN8 (in) "Single-Ended LNA Inputs", 63 IN7 (in) "Single-Ended LNA Inputs"
part B pins: 2 AGND (power) "Analog Ground", 4 AGND (power) "Analog Ground", 5 DVDD (power) "Digital Supplies", 6 DGND (power) "Digital Ground", 11 DGND (power) "Digital Ground", 12 DVDD (power) "Digital Supplies", 13 AGND (power) "Analog Ground", 15 AGND (power) "Analog Ground", 17 AGND (power) "Analog Ground", 19 AGND (power) "Analog Ground", 21 AVDD (power) "Analog Supplies", 27 AGND (power) "Analog Ground", 28 AVDD (power) "Analog Supplies", 30 VCM (power) "Common-Mode Voltage-internally generated; requires external bypass cap.", 31 AGND (power) "Analog Ground", 50 AGND (power) "Analog Ground", 53 AVDD (power) "Analog Supplies", 54 AGND (power) "Analog Ground", 60 AVDD (power) "Analog Supplies", 62 AGND (power) "Analog Ground", 64 AGND (power) "Analog Ground"

## VCA8617PAGR
designator U?
8-Channel Variable Gain Amplifier, -40 to 85 degC, 64-pin QFP (PAG64), Green (RoHS & no Sb/Br); Manufacturer: Texas Instruments; PartNumber: VCA8617PAGR; BW @ Acl(MHz): 14.5; Number of Channels: 8; Slew Rate(Typ)(V/us): 300; Vs(Max)(V): 3.15; Vs(Min)(V): 2.85; DatasheetVersion: SBOS308F; PackageVersion: 4040282/C, 11/1996; PackageReference: PAG64; PackageDescription: 64-Pin Plastic Flat Pack, Body 10 x 10 mm, Pitch 0.50 mm; Supplier 1: Digi-Key; Supplier Part Number 1: VCA8617PAGR-ND; Supplier 2: Mouser; Supplier Part Number 2: 595-VCA8617PAGR; Eco-Plan: Green (RoHS & no Sb/Br); SubFamily: Variable Gain Amplifier; Mounting Technology: Surface Mount; Code_JEDEC: MS-026; ComponentLink1Description: Manufacturer URL; ComponentLink1URL: http://www.ti.com/; ComponentLink2Description: Datasheet; ComponentLink2URL: http://www.ti.com/general/docs/lit/getliterature.tsp?genericPartNumber=VCA8617&fileType=pdf; ComponentLink3Description: Package Specification; ComponentLink3URL: http://www.ti.com/lit/ml/mtqf006a/mtqf006a.pdf
footprint TI-PAG64_N (QFP, 64-Leads, Body 10x10mm, Pitch 0.5mm, IPC Medium Density)
footprint TI-PAG64_L (QFP, 64-Leads, Body 10x10mm, Pitch 0.5mm, IPC High Density)
footprint TI-PAG64_M (QFP, 64-Leads, Body 10x10mm, Pitch 0.5mm, IPC Low Density)
part A pins: 1 IN6 (in) "Single-Ended LNA Inputs", 3 IN5 (in) "Single-Ended LNA Inputs", 7 DOUT (out) "Serial Data Output Pin", 8 CLK (in) "Serial Data Input Clock", 9 DIN (in) "Serial Data Input Pin", 10 ~{CS} (in) "Serial Data Chip Select", 14 IN4 (in) "Single-Ended LNA Inputs", 16 IN3 (in) "Single-Ended LNA Inputs", 18 IN2 (in) "Single-Ended LNA Inputs", 20 IN1 (in) "Single-Ended LNA Inputs", 22 CW1 (out) "Continuous Wave Processor Outputs", 23 CW3 (out) "Continuous Wave Processor Outputs", 24 CW5 (out) "Continuous Wave Processor Outputs", 25 CW7 (out) "Continuous Wave Processor Outputs", 26 CW9 (out) "Continuous Wave Processor Outputs", 29 VFIL (in) "Reference Voltage for Output Filter-internally generated; requires external bypass cap.", 33 ~{OUT}1 (out) "Negative Polarity PGA Outputs", 34 OUT1 (out) "Positive Polarity PGA Outputs", 35 ~{OUT}2 (out) "Negative Polarity PGA Outputs", 36 OUT2 (out) "Positive Polarity PGA Outputs", 37 ~{OUT}3 (out) "Negative Polarity PGA Outputs", 38 OUT3 (out) "Positive Polarity PGA Outputs", 39 ~{OUT}4 (out) "Negative Polarity PGA Outputs", 40 OUT4 (out) "Positive Polarity PGA Outputs", 41 ~{OUT}5 (out) "Negative Polarity PGA Outputs", 42 OUT5 (out) "Positive Polarity PGA Outputs", 43 ~{OUT}6 (out) "Negative Polarity PGA Outputs", 44 OUT6 (out) "Positive Polarity PGA Outputs", 45 ~{OUT}7 (out) "Negative Polarity PGA Outputs", 46 OUT7 (out) "Positive Polarity PGA Outputs", 47 ~{OUT}8 (out) "Negative Polarity PGA Outputs", 48 OUT8 (out) "Positive Polarity PGA Outputs", 49 VREF (in) "Reference Voltage for Attenuator-internally generated; requires external bypass cap.", 51 VLNA (in) "Reference Voltage for LNA-internally generated; requires external bypass cap.", 52 VCNTRL (in) "Attenuator Control Voltage Input", 55 CW8 (out) "Continuous Wave Processor Outputs", 56 CW6 (out) "Continuous Wave Processor Outputs", 57 CW4 (out) "Continuous Wave Processor Outputs", 58 CW2 (out) "Continuous Wave Processor Outputs", 59 CW0 (out) "Continuous Wave Processor Outputs", 61 IN8 (in) "Single-Ended LNA Inputs", 63 IN7 (in) "Single-Ended LNA Inputs"
part B pins: 2 AGND (power) "Analog Ground", 4 AGND (power) "Analog Ground", 5 DVDD (power) "Digital Supplies", 6 DGND (power) "Digital Ground", 11 DGND (power) "Digital Ground", 12 DVDD (power) "Digital Supplies", 13 AGND (power) "Analog Ground", 15 AGND (power) "Analog Ground", 17 AGND (power) "Analog Ground", 19 AGND (power) "Analog Ground", 21 AVDD (power) "Analog Supplies", 27 AGND (power) "Analog Ground", 28 AVDD (power) "Analog Supplies", 30 VCM (power) "Common-Mode Voltage-internally generated; requires external bypass cap.", 31 GNDR (power) "Reference Ground", 32 VDDR (power) "Reference Power Supply", 50 AGND (power) "Analog Ground", 53 AVDD (power) "Analog Supplies", 54 AGND (power) "Analog Ground", 60 AVDD (power) "Analog Supplies", 62 AGND (power) "Analog Ground", 64 AGND (power) "Analog Ground"

## VCA8617PAGRG4
designator U?
8-Channel Variable Gain Amplifier, -40 to 85 degC, 64-pin QFP (PAG64), Green (RoHS & no Sb/Br); Manufacturer: Texas Instruments; PartNumber: VCA8617PAGRG4; BW @ Acl(MHz): 14.5; Number of Channels: 8; Slew Rate(Typ)(V/us): 300; Vs(Max)(V): 3.15; Vs(Min)(V): 2.85; DatasheetVersion: SBOS308F; PackageVersion: 4040282/C, 11/1996; PackageReference: PAG64; PackageDescription: 64-Pin Plastic Flat Pack, Body 10 x 10 mm, Pitch 0.50 mm; Supplier 1: Digi-Key; Supplier Part Number 1: VCA8617PAGRG4-ND; Supplier 2: Mouser; Supplier Part Number 2: 595-VCA8617PAGRG4; Eco-Plan: Green (RoHS & no Sb/Br); SubFamily: Variable Gain Amplifier; Mounting Technology: Surface Mount; Code_JEDEC: MS-026; ComponentLink1Description: Manufacturer URL; ComponentLink1URL: http://www.ti.com/; ComponentLink2Description: Datasheet; ComponentLink2URL: http://www.ti.com/general/docs/lit/getliterature.tsp?genericPartNumber=VCA8617&fileType=pdf; ComponentLink3Description: Package Specification; ComponentLink3URL: http://www.ti.com/lit/ml/mtqf006a/mtqf006a.pdf
footprint TI-PAG64_N (QFP, 64-Leads, Body 10x10mm, Pitch 0.5mm, IPC Medium Density)
footprint TI-PAG64_L (QFP, 64-Leads, Body 10x10mm, Pitch 0.5mm, IPC High Density)
footprint TI-PAG64_M (QFP, 64-Leads, Body 10x10mm, Pitch 0.5mm, IPC Low Density)
part A pins: 1 IN6 (in) "Single-Ended LNA Inputs", 3 IN5 (in) "Single-Ended LNA Inputs", 7 DOUT (out) "Serial Data Output Pin", 8 CLK (in) "Serial Data Input Clock", 9 DIN (in) "Serial Data Input Pin", 10 ~{CS} (in) "Serial Data Chip Select", 14 IN4 (in) "Single-Ended LNA Inputs", 16 IN3 (in) "Single-Ended LNA Inputs", 18 IN2 (in) "Single-Ended LNA Inputs", 20 IN1 (in) "Single-Ended LNA Inputs", 22 CW1 (out) "Continuous Wave Processor Outputs", 23 CW3 (out) "Continuous Wave Processor Outputs", 24 CW5 (out) "Continuous Wave Processor Outputs", 25 CW7 (out) "Continuous Wave Processor Outputs", 26 CW9 (out) "Continuous Wave Processor Outputs", 29 VFIL (in) "Reference Voltage for Output Filter-internally generated; requires external bypass cap.", 33 ~{OUT}1 (out) "Negative Polarity PGA Outputs", 34 OUT1 (out) "Positive Polarity PGA Outputs", 35 ~{OUT}2 (out) "Negative Polarity PGA Outputs", 36 OUT2 (out) "Positive Polarity PGA Outputs", 37 ~{OUT}3 (out) "Negative Polarity PGA Outputs", 38 OUT3 (out) "Positive Polarity PGA Outputs", 39 ~{OUT}4 (out) "Negative Polarity PGA Outputs", 40 OUT4 (out) "Positive Polarity PGA Outputs", 41 ~{OUT}5 (out) "Negative Polarity PGA Outputs", 42 OUT5 (out) "Positive Polarity PGA Outputs", 43 ~{OUT}6 (out) "Negative Polarity PGA Outputs", 44 OUT6 (out) "Positive Polarity PGA Outputs", 45 ~{OUT}7 (out) "Negative Polarity PGA Outputs", 46 OUT7 (out) "Positive Polarity PGA Outputs", 47 ~{OUT}8 (out) "Negative Polarity PGA Outputs", 48 OUT8 (out) "Positive Polarity PGA Outputs", 49 VREF (in) "Reference Voltage for Attenuator-internally generated; requires external bypass cap.", 51 VLNA (in) "Reference Voltage for LNA-internally generated; requires external bypass cap.", 52 VCNTRL (in) "Attenuator Control Voltage Input", 55 CW8 (out) "Continuous Wave Processor Outputs", 56 CW6 (out) "Continuous Wave Processor Outputs", 57 CW4 (out) "Continuous Wave Processor Outputs", 58 CW2 (out) "Continuous Wave Processor Outputs", 59 CW0 (out) "Continuous Wave Processor Outputs", 61 IN8 (in) "Single-Ended LNA Inputs", 63 IN7 (in) "Single-Ended LNA Inputs"
part B pins: 2 AGND (power) "Analog Ground", 4 AGND (power) "Analog Ground", 5 DVDD (power) "Digital Supplies", 6 DGND (power) "Digital Ground", 11 DGND (power) "Digital Ground", 12 DVDD (power) "Digital Supplies", 13 AGND (power) "Analog Ground", 15 AGND (power) "Analog Ground", 17 AGND (power) "Analog Ground", 19 AGND (power) "Analog Ground", 21 AVDD (power) "Analog Supplies", 27 AGND (power) "Analog Ground", 28 AVDD (power) "Analog Supplies", 30 VCM (power) "Common-Mode Voltage-internally generated; requires external bypass cap.", 31 GNDR (power) "Reference Ground", 32 VDDR (power) "Reference Power Supply", 50 AGND (power) "Analog Ground", 53 AVDD (power) "Analog Supplies", 54 AGND (power) "Analog Ground", 60 AVDD (power) "Analog Supplies", 62 AGND (power) "Analog Ground", 64 AGND (power) "Analog Ground"

## VCA8617PAGT
designator U?
8-Channel Variable Gain Amplifier, -40 to 85 degC, 64-pin QFP (PAG64), Green (RoHS & no Sb/Br); Manufacturer: Texas Instruments; PartNumber: VCA8617PAGT; BW @ Acl(MHz): 14.5; Number of Channels: 8; Slew Rate(Typ)(V/us): 300; Vs(Max)(V): 3.15; Vs(Min)(V): 2.85; DatasheetVersion: SBOS308F; PackageVersion: 4040282/C, 11/1996; PackageReference: PAG64; PackageDescription: 64-Pin Plastic Flat Pack, Body 10 x 10 mm, Pitch 0.50 mm; Supplier 1: Digi-Key; Supplier Part Number 1: 296-18579-2-ND; Supplier 2: Digi-Key; Supplier Part Number 2: 296-18579-1-ND; Supplier 3: Newark; Supplier Part Number 3: 65J6999; Supplier 4: Mouser; Supplier Part Number 4: 595-VCA8617PAGT; Eco-Plan: Green (RoHS & no Sb/Br); SubFamily: Variable Gain Amplifier; Mounting Technology: Surface Mount; Code_JEDEC: MS-026; ComponentLink1Description: Manufacturer URL; ComponentLink1URL: http://www.ti.com/; ComponentLink2Description: Datasheet; ComponentLink2URL: http://www.ti.com/general/docs/lit/getliterature.tsp?genericPartNumber=VCA8617&fileType=pdf; ComponentLink3Description: Package Specification; ComponentLink3URL: http://www.ti.com/lit/ml/mtqf006a/mtqf006a.pdf
footprint TI-PAG64_N (QFP, 64-Leads, Body 10x10mm, Pitch 0.5mm, IPC Medium Density)
footprint TI-PAG64_L (QFP, 64-Leads, Body 10x10mm, Pitch 0.5mm, IPC High Density)
footprint TI-PAG64_M (QFP, 64-Leads, Body 10x10mm, Pitch 0.5mm, IPC Low Density)
part A pins: 1 IN6 (in) "Single-Ended LNA Inputs", 3 IN5 (in) "Single-Ended LNA Inputs", 7 DOUT (out) "Serial Data Output Pin", 8 CLK (in) "Serial Data Input Clock", 9 DIN (in) "Serial Data Input Pin", 10 ~{CS} (in) "Serial Data Chip Select", 14 IN4 (in) "Single-Ended LNA Inputs", 16 IN3 (in) "Single-Ended LNA Inputs", 18 IN2 (in) "Single-Ended LNA Inputs", 20 IN1 (in) "Single-Ended LNA Inputs", 22 CW1 (out) "Continuous Wave Processor Outputs", 23 CW3 (out) "Continuous Wave Processor Outputs", 24 CW5 (out) "Continuous Wave Processor Outputs", 25 CW7 (out) "Continuous Wave Processor Outputs", 26 CW9 (out) "Continuous Wave Processor Outputs", 29 VFIL (in) "Reference Voltage for Output Filter-internally generated; requires external bypass cap.", 33 ~{OUT}1 (out) "Negative Polarity PGA Outputs", 34 OUT1 (out) "Positive Polarity PGA Outputs", 35 ~{OUT}2 (out) "Negative Polarity PGA Outputs", 36 OUT2 (out) "Positive Polarity PGA Outputs", 37 ~{OUT}3 (out) "Negative Polarity PGA Outputs", 38 OUT3 (out) "Positive Polarity PGA Outputs", 39 ~{OUT}4 (out) "Negative Polarity PGA Outputs", 40 OUT4 (out) "Positive Polarity PGA Outputs", 41 ~{OUT}5 (out) "Negative Polarity PGA Outputs", 42 OUT5 (out) "Positive Polarity PGA Outputs", 43 ~{OUT}6 (out) "Negative Polarity PGA Outputs", 44 OUT6 (out) "Positive Polarity PGA Outputs", 45 ~{OUT}7 (out) "Negative Polarity PGA Outputs", 46 OUT7 (out) "Positive Polarity PGA Outputs", 47 ~{OUT}8 (out) "Negative Polarity PGA Outputs", 48 OUT8 (out) "Positive Polarity PGA Outputs", 49 VREF (in) "Reference Voltage for Attenuator-internally generated; requires external bypass cap.", 51 VLNA (in) "Reference Voltage for LNA-internally generated; requires external bypass cap.", 52 VCNTRL (in) "Attenuator Control Voltage Input", 55 CW8 (out) "Continuous Wave Processor Outputs", 56 CW6 (out) "Continuous Wave Processor Outputs", 57 CW4 (out) "Continuous Wave Processor Outputs", 58 CW2 (out) "Continuous Wave Processor Outputs", 59 CW0 (out) "Continuous Wave Processor Outputs", 61 IN8 (in) "Single-Ended LNA Inputs", 63 IN7 (in) "Single-Ended LNA Inputs"
part B pins: 2 AGND (power) "Analog Ground", 4 AGND (power) "Analog Ground", 5 DVDD (power) "Digital Supplies", 6 DGND (power) "Digital Ground", 11 DGND (power) "Digital Ground", 12 DVDD (power) "Digital Supplies", 13 AGND (power) "Analog Ground", 15 AGND (power) "Analog Ground", 17 AGND (power) "Analog Ground", 19 AGND (power) "Analog Ground", 21 AVDD (power) "Analog Supplies", 27 AGND (power) "Analog Ground", 28 AVDD (power) "Analog Supplies", 30 VCM (power) "Common-Mode Voltage-internally generated; requires external bypass cap.", 31 GNDR (power) "Reference Ground", 32 VDDR (power) "Reference Power Supply", 50 AGND (power) "Analog Ground", 53 AVDD (power) "Analog Supplies", 54 AGND (power) "Analog Ground", 60 AVDD (power) "Analog Supplies", 62 AGND (power) "Analog Ground", 64 AGND (power) "Analog Ground"